# EAGLE library part CC2538-CN (library CC2538-CN)
CC2538 + CC2592 typical Chinese Module black/green Credits 3D Model, take from uzsito's KiCad Component: https://github.com/uzsito/CC2538-CC2592-kicad-component
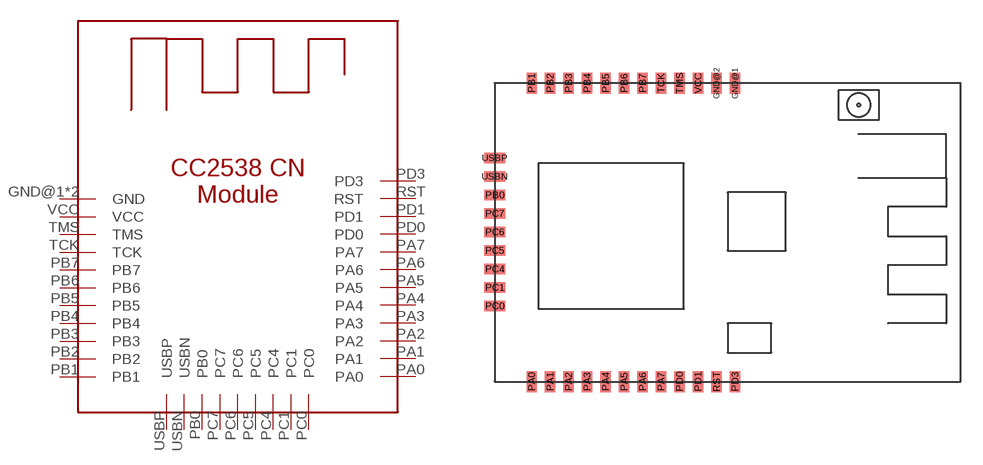
[diagram p0: symbol with the pads of CC2538-CN; footprint CC2538-CN]

Designator prefix -

## CC2538-CN  [CC2538-CN]
GND@1  GND
GND@2  GND
PA0  PA0
PA1  PA1
PA2  PA2
PA3  PA3
PA4  PA4
PA5  PA5
PA6  PA6
PA7  PA7
PB0  PB0
PB1  PB1
PB2  PB2
PB3  PB3
PB4  PB4
PB5  PB5
PB6  PB6
PB7  PB7
PC0  PC0
PC1  PC1
PC4  PC4
PC5  PC5
PC6  PC6
PC7  PC7
PD0  PD0
PD1  PD1
PD3  PD3
RST  RST
TCK  TCK
TMS  TMS
USBN  USBN
USBP  USBP
VCC  VCC

## Footprint CC2538-CN (pad centres in mm)
smd 0.711 x 1.422: GND@1 16.51,20.5; GND@2 15.24,20.5; PA0 2.54,0; PA1 3.81,0; PA2 5.08,0; PA3 6.35,0; PA4 7.62,0; PA5 8.89,0; PA6 10.16,0; PA7 11.43,0; PB1 2.54,20.5; PB2 3.81,20.5; PB3 5.08,20.5; PB4 6.35,20.5; PB5 7.62,20.5; PB6 8.89,20.5; PB7 10.16,20.5; PD0 12.7,0; PD1 13.97,0; PD3 16.51,0; RST 15.24,0; TCK 11.43,20.5; TMS 12.7,20.5; VCC 13.97,20.5
smd 1.422 x 0.711: PB0 0,12.82; PC0 0,5.2; PC1 0,6.47; PC4 0,7.74; PC5 0,9.01; PC6 0,10.28; PC7 0,11.55; USBN 0,14.09; USBP 0,15.36